# Altium footprint library SM_SOD-323-REVD_SYM.PcbLib: 1 footprints
Each footprint in its own frame and in the unit in brackets; x right, y up, seen from the top. Pads: shape width x height; smd on the part's side, far side on the other; paste and mask are expansions set on the pad; w line width, h text height; cw(c..) or ccw(c..) is an arc to the next point about the centre after c.
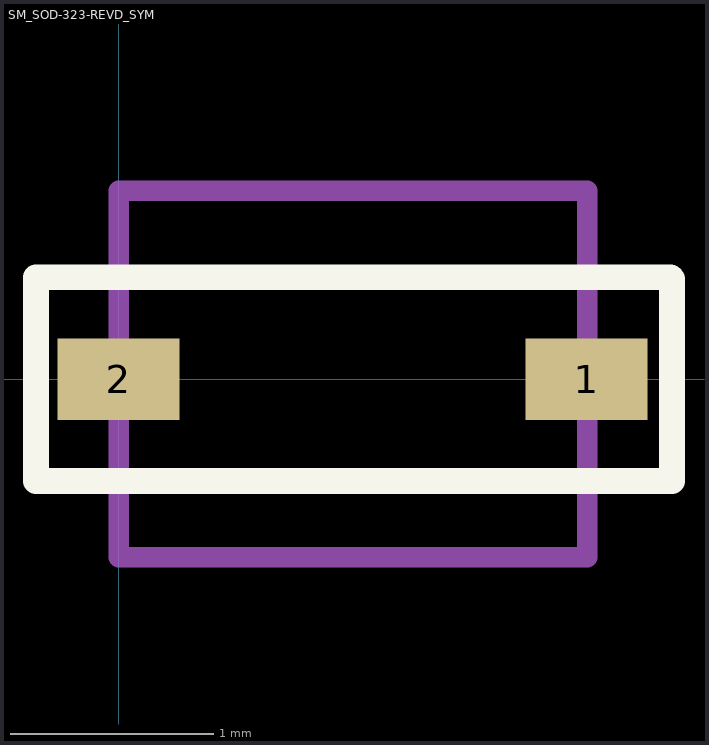
[diagram p0: the footprint, top view; thin cyan lines are the x and y axes]

## SM_SOD-323-REVD_SYM [mm]
height 1.1
pads (2):
  rect 0.599x0.4 smd: 1(2.298,0) 2(0,0)
Top Overlay:
  lines w0.127: -0.406,-0.5 -0.406,0.5 ; -0.381,-0.5 2.718,-0.5 2.718,0.492 2.71,0.5 -0.381,0.5
Mechanical 1:
  lines w0.05: -0.406,-0.491 -0.406,0.508 ; -0.381,-0.5 2.718,-0.5 ; -0.381,0.508 2.718,0.5 ; 2.718,-0.508 2.718,0.491
Mechanical 13:
  lines w0.1: 0,-0.875 2.3,-0.875 2.3,0.925 0,0.925 0,-0.875
3D body: height 1.1, standoff 0, extent 0,-0.875 2.3,0.925